# EAGLE library part TELEMETRY_1 (library 000001)
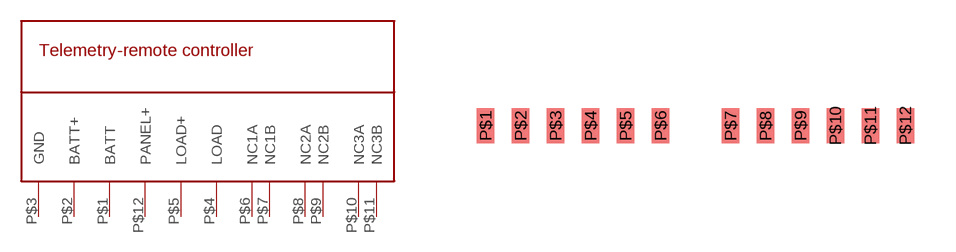
[diagram p71: symbol with the pads of TELEMETRY_1; footprint TELEMETRY_1]

Designator prefix -

## TELEMETRY_1R  [TELEMETRY_1]
P$1  BATT
P$2  BATT+
P$3  GND
P$4  LOAD
P$5  LOAD+
P$6  NC1A
P$7  NC1B
P$8  NC2A
P$9  NC2B
P$10  NC3A
P$11  NC3B
P$12  PANEL+

## Footprint TELEMETRY_1 (pad centres in mm)
smd 0.635 x 1.27: P$1 -17.78,6.35; P$2 -16.51,6.35; P$3 -15.24,6.35; P$4 -13.97,6.35; P$5 -12.7,6.35; P$6 -11.43,6.35; P$7 -8.89,6.35; P$8 -7.62,6.35; P$9 -6.35,6.35; P$10 -5.08,6.35; P$11 -3.81,6.35; P$12 -2.54,6.35